# Altium footprint library ECU_pcb_lib.PcbLib: 36 footprints (part 2 of 3)
Each footprint in its own frame and in the unit in brackets; x right, y up, seen from the top. Pads: shape width x height; smd on the part's side, far side on the other; paste and mask are expansions set on the pad; w line width, h text height; cw(c..) or ccw(c..) is an arc to the next point about the centre after c.
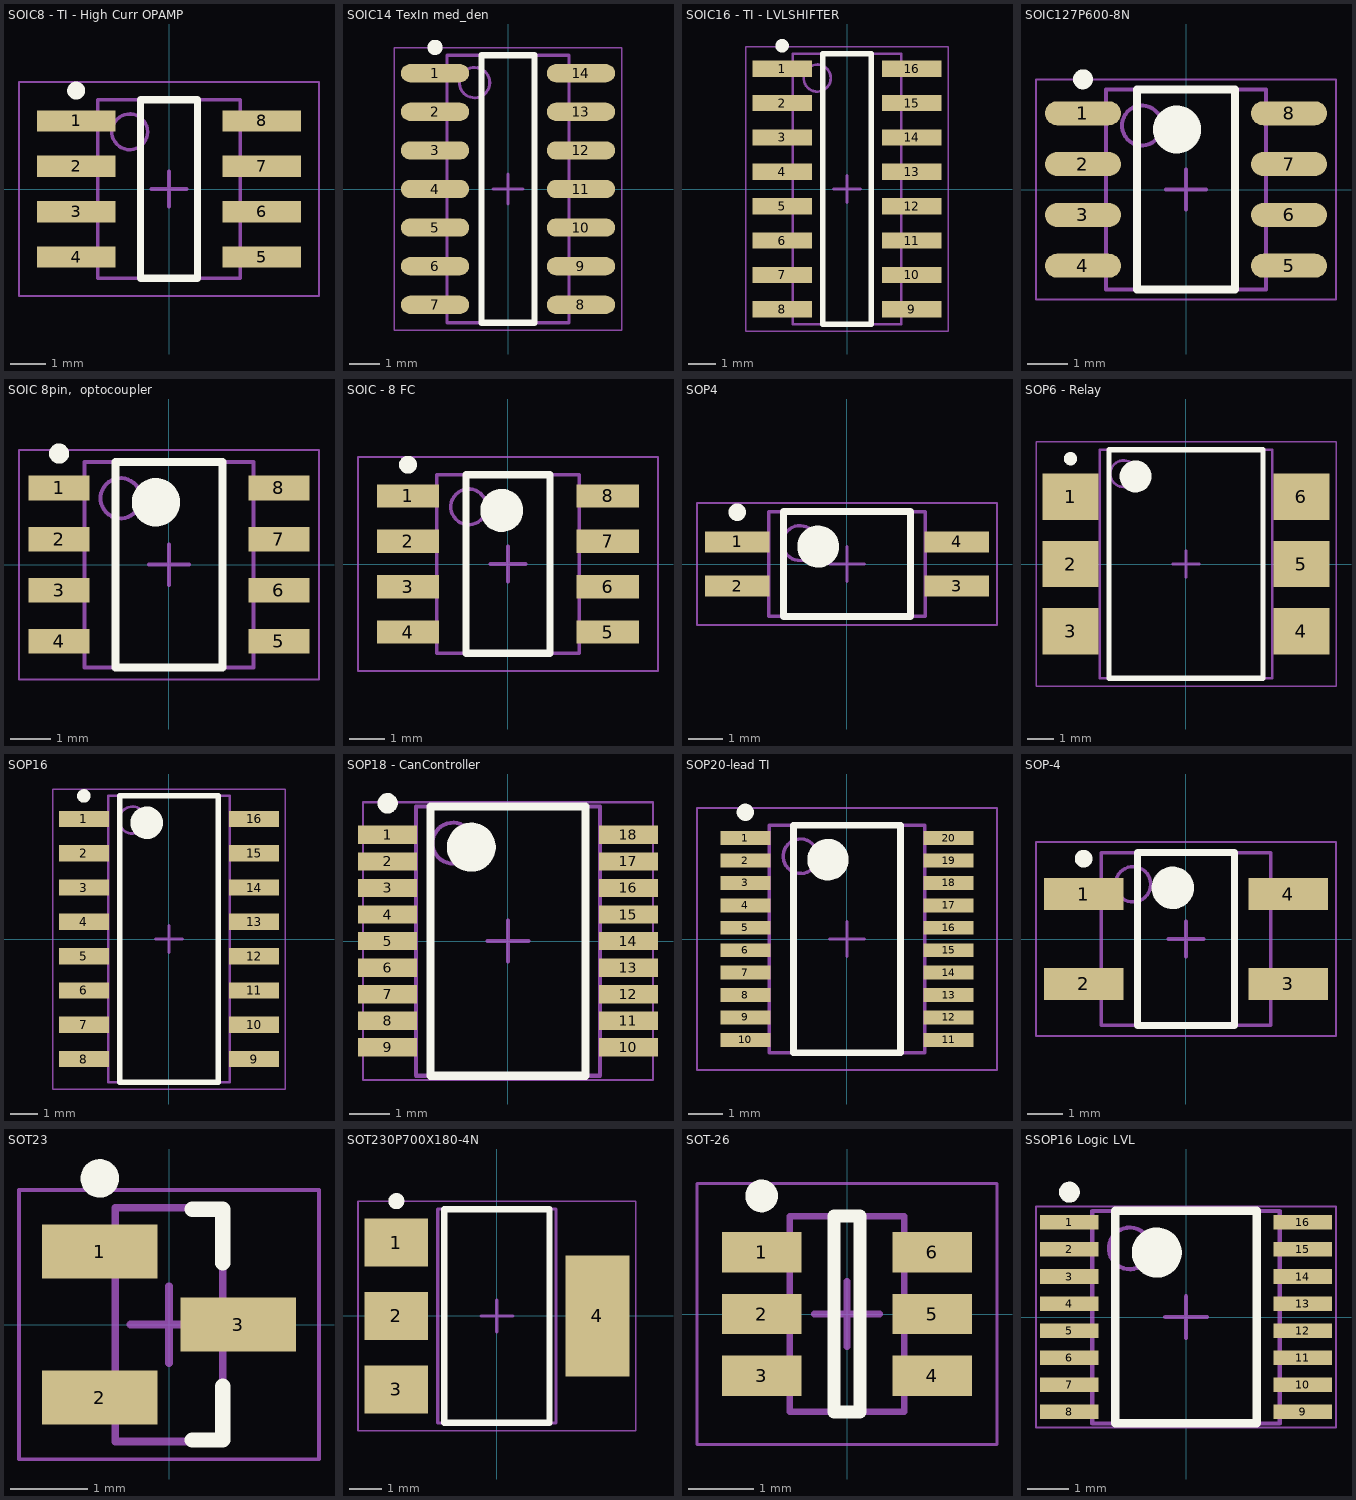
[diagram p1: the footprints below, top view; thin cyan lines are the x and y axes]

## SOIC8 - TI - High Curr OPAMP [mm] "High current Op-amp land pattern (SOIC8) for TI LM7332MA"
height 1.85
pads (8):
  rect 2.2x0.6 smd: 1(-2.6,1.905) 2(-2.6,0.635) 3(-2.6,-0.635) 4(-2.6,-1.905) 5(2.6,-1.905) 6(2.6,-0.635) 7(2.6,0.635) 8(2.6,1.905)
Top Overlay:
  circle w0.25: c-2.6,2.755 r0.125
  lines w0.2: -0.8,-2.5 0.8,-2.5 0.8,2.5 -0.8,2.5 -0.8,-2.5
Mechanical 13:
  circle w0.1: c-1.1,1.6 r0.5
  lines w0.1: -2,-2.5 2,-2.5 2,2.5 -2,2.5 -2,-2.5
Mechanical 15:
  lines w0.05: -4.2,-3 4.2,-3 4.2,3 -4.2,3 -4.2,-3
  lines w0.1: -0.5,0 0.5,0 ; 0,-0.5 0,0.5
3D body: height 1.85, standoff 0.1, extent -2,-2.5 2,2.5

## SOIC14 TexIn med_den [mm] "SOIC14 package, intended for quad opamp from Texasinstruments"
height 1.75
pads (14):
  oval 2.25x0.6 smd: 1(-2.4,3.81) 2(-2.4,2.54) 3(-2.4,1.27) 4(-2.4,0) 5(-2.4,-1.27) 6(-2.4,-2.54) 7(-2.4,-3.81) 8(2.4,-3.81) 9(2.4,-2.54) 10(2.4,-1.27) 11(2.4,0) 12(2.4,1.27) 13(2.4,2.54) 14(2.4,3.81)
Top Overlay:
  circle w0.25: c-2.4,4.66 r0.125
  lines w0.2: -0.875,-4.4 -0.875,4.4 0.875,4.4 0.875,-4.4 -0.875,-4.4
Mechanical 13:
  circle w0.1: c-1.1,3.5 r0.5
  lines w0.1: -2,-4.4 -2,4.4 2,4.4 2,-4.4 -2,-4.4
Mechanical 15:
  lines w0.05: -3.75,-4.65 -3.75,4.65 3.75,4.65 3.75,-4.65 -3.75,-4.65
  lines w0.1: -0.5,0 0.5,0 ; 0,-0.5 0,0.5
3D body: height 1.75, standoff 0.1, extent -2,-4.4 2,4.4

## SOIC16 - TI - LVLSHIFTER [mm] "16 pin SOIC package for Texas Instrument 6 channel level converter"
height 1.75
pads (16):
  rect 2.2x0.6 smd: 1(-2.4,4.445) 2(-2.4,3.175) 3(-2.4,1.905) 4(-2.4,0.635) 5(-2.4,-0.635) 6(-2.4,-1.905) 7(-2.4,-3.175) 8(-2.4,-4.445) 9(2.4,-4.445) 10(2.4,-3.175) 11(2.4,-1.905) 12(2.4,-0.635) 13(2.4,0.635) 14(2.4,1.905) 15(2.4,3.175) 16(2.4,4.445)
Top Overlay:
  circle w0.25: c-2.4,5.295 r0.125
  lines w0.2: -0.9,-5 0.9,-5 0.9,5 -0.9,5 -0.9,-5
Mechanical 13:
  circle w0.1: c-1.1,4.1 r0.5
  lines w0.1: -2,-5 2,-5 2,5 -2,5 -2,-5
Mechanical 15:
  lines w0.05: -3.75,-5.25 3.75,-5.25 3.75,5.25 -3.75,5.25 -3.75,-5.25
  lines w0.1: -0.5,0 0.5,0 ; 0,-0.5 0,0.5
3D body: height 1.75, standoff 0.1, extent -2,-5 2,5

## SOIC127P600-8N [mm]
height 1.35
pads (8):
  oval 1.9x0.6 smd: 1(-2.575,1.905) 2(-2.575,0.635) 3(-2.575,-0.635) 4(-2.575,-1.905) 5(2.575,-1.905) 6(2.575,-0.635) 7(2.575,0.635) 8(2.575,1.905)
Top Overlay:
  circle w0.6: c-0.225,1.5 r0.3
  circle w0.25: c-2.575,2.755 r0.125
  lines w0.2: -1.225,-2.5 1.225,-2.5 1.225,2.5 -1.225,2.5 -1.225,-2.5
Mechanical 13:
  circle w0.1: c-1.1,1.6 r0.5
  lines w0.1: -2,-2.5 2,-2.5 2,2.5 -2,2.5 -2,-2.5
Mechanical 15:
  lines w0.05: -3.75,-2.75 3.75,-2.75 3.75,2.75 -3.75,2.75 -3.75,-2.75
  lines w0.1: -0.5,0 0.5,0 ; 0,-0.5 0,0.5
3D body: height 1.35, standoff 0.1, extent -2,-2.5 2,2.5

## SOIC 8pin,  optocoupler [mm] "8pin SOIC 8pin logic out Fairchild Semi"
height 3.63
pads (8):
  rect 1.52x0.61 smd: 1(-2.73,1.905) 2(-2.73,0.635) 3(-2.73,-0.635) 4(-2.73,-1.905) 5(2.73,-1.905) 6(2.73,-0.635) 7(2.73,0.635) 8(2.73,1.905)
Top Overlay:
  circle w0.6: c-0.325,1.55 r0.3
  circle w0.25: c-2.73,2.76 r0.125
  lines w0.2: -1.325,-2.55 1.325,-2.55 1.325,2.55 -1.325,2.55 -1.325,-2.55
Mechanical 13:
  circle w0.1: c-1.2,1.65 r0.5
  lines w0.1: -2.1,-2.55 2.1,-2.55 2.1,2.55 -2.1,2.55 -2.1,-2.55
Mechanical 15:
  lines w0.05: -3.725,-2.85 3.725,-2.85 3.725,2.85 -3.725,2.85 -3.725,-2.85
  lines w0.1: -0.5,0 0.5,0 ; 0,-0.5 0,0.5
3D body: height 3.63, standoff 0.08, extent -2.1,-2.55 2.1,2.55

## SOIC - 8 FC [mm] "SOIC8 Fairchild Semiconductors"
height 1.75
pads (8):
  rect 1.75x0.65 smd: 1(-2.8,1.905) 2(-2.8,0.635) 3(-2.8,-0.635) 4(-2.8,-1.905) 5(2.8,-1.905) 6(2.8,-0.635) 7(2.8,0.635) 8(2.8,1.905)
Top Overlay:
  circle w0.6: c-0.175,1.5 r0.3
  circle w0.25: c-2.8,2.78 r0.125
  lines w0.2: -1.175,-2.5 1.175,-2.5 1.175,2.5 -1.175,2.5 -1.175,-2.5
Mechanical 13:
  circle w0.1: c-1.1,1.6 r0.5
  lines w0.1: -2,-2.5 2,-2.5 2,2.5 -2,2.5 -2,-2.5
Mechanical 15:
  lines w0.05: -4.2,-3 4.2,-3 4.2,3 -4.2,3 -4.2,-3
  lines w0.1: -0.5,0 0.5,0 ; 0,-0.5 0,0.5
3D body: height 1.75, standoff 0.1, extent -2,-2.5 2,2.5

## SOP4 [mm] "Used for 1channel optocoupler from CEL"
height 2.1
pads (4):
  rect 1.85x0.6 smd: 1(-3.15,0.635) 2(-3.15,-0.635) 3(3.15,-0.635) 4(3.15,0.635)
Top Overlay:
  circle w0.25: c-3.15,1.485 r0.125
  circle w0.6: c-0.825,0.5 r0.3
  lines w0.2: -1.825,-1.5 -1.825,1.5 1.825,1.5 1.825,-1.5 -1.825,-1.5
Mechanical 13:
  circle w0.1: c-1.35,0.6 r0.5
  lines w0.1: -2.25,-1.5 -2.25,1.5 2.25,1.5 2.25,-1.5 -2.25,-1.5
Mechanical 15:
  lines w0.05: -4.3,-1.75 -4.3,1.75 4.3,1.75 4.3,-1.75 -4.3,-1.75
  lines w0.1: -0.5,0 0.5,0 ; 0,-0.5 0,0.5
3D body: height 2.1, standoff 0, extent -2.25,-1.5 2.25,1.5

## SOP6 - Relay [mm] "Footprint for International Rectifier relay"
height 3.42
pads (6):
  rect 2.1x1.75 smd: 1(-4.35,2.54) 2(-4.35,0) 3(-4.35,-2.54) 4(4.35,-2.54) 5(4.35,0) 6(4.35,2.54)
Top Overlay:
  circle w0.6: c-1.9,3.3 r0.3
  circle w0.25: c-4.35,3.965 r0.125
  lines w0.2: -2.9,-4.3 2.9,-4.3 2.9,4.3 -2.9,4.3 -2.9,-4.3
Mechanical 13:
  circle w0.1: c-2.35,3.4 r0.5
  lines w0.1: -3.25,-4.3 3.25,-4.3 3.25,4.3 -3.25,4.3 -3.25,-4.3
Mechanical 15:
  lines w0.05: -5.65,-4.6 5.65,-4.6 5.65,4.6 -5.65,4.6 -5.65,-4.6
  lines w0.1: -0.5,0 0.5,0 ; 0,-0.5 0,0.5
3D body: height 3.42, standoff 0.1, extent -3.25,-4.3 3.25,4.3

## SOP16 [mm] "SOP16 CEL-package (used for 4channel optocoupler)"
height 2.1
pads (16):
  rect 1.85x0.6 smd: 1(-3.15,4.445) 2(-3.15,3.175) 3(-3.15,1.905) 4(-3.15,0.635) 5(-3.15,-0.635) 6(-3.15,-1.905) 7(-3.15,-3.175) 8(-3.15,-4.445) 9(3.15,-4.445) 10(3.15,-3.175) 11(3.15,-1.905) 12(3.15,-0.635) 13(3.15,0.635) 14(3.15,1.905) 15(3.15,3.175) 16(3.15,4.445)
Top Overlay:
  circle w0.25: c-3.15,5.295 r0.125
  circle w0.6: c-0.825,4.3 r0.3
  lines w0.2: -1.825,-5.3 -1.825,5.3 1.825,5.3 1.825,-5.3 -1.825,-5.3
Mechanical 13:
  circle w0.1: c-1.35,4.4 r0.5
  lines w0.1: -2.25,-5.3 -2.25,5.3 2.25,5.3 2.25,-5.3 -2.25,-5.3
Mechanical 15:
  lines w0.05: -4.3,-5.55 -4.3,5.55 4.3,5.55 4.3,-5.55 -4.3,-5.55
  lines w0.1: -0.5,0 0.5,0 ; 0,-0.5 0,0.5
3D body: height 2.1, standoff 0, extent -2.25,-5.3 2.25,5.3

## SOP18 - CanController [mm] "Sop18 package for ssop18 CAN controller from MicroChip"
height 1.2
pads (18):
  rect 1.45x0.45 smd: 1(-2.95,2.6) 2(-2.95,1.95) 3(-2.95,1.3) 4(-2.95,0.65) 5(-2.95,0) 6(-2.95,-0.65) 7(-2.95,-1.3) 8(-2.95,-1.95) 9(-2.95,-2.6) 10(2.95,-2.6) 11(2.95,-1.95) 12(2.95,-1.3) 13(2.95,-0.65) 14(2.95,0) 15(2.95,0.65) 16(2.95,1.3) 17(2.95,1.95) 18(2.95,2.6)
Top Overlay:
  circle w0.25: c-2.95,3.375 r0.125
  circle w0.6: c-0.9,2.3 r0.3
  lines w0.2: -1.9,-3.3 -1.9,3.3 1.9,3.3 1.9,-3.3 -1.9,-3.3
Mechanical 13:
  circle w0.1: c-1.35,2.4 r0.5
  lines w0.1: -2.25,-3.3 -2.25,3.3 2.25,3.3 2.25,-3.3 -2.25,-3.3
Mechanical 15:
  lines w0.05: -3.55,-3.4 -3.55,3.4 3.55,3.4 3.55,-3.4 -3.55,-3.4
  lines w0.1: -0.5,0 0.5,0 ; 0,-0.5 0,0.5
3D body: height 1.2, standoff 0.05, extent -2.25,-3.3 2.25,3.3

## SOP20-lead TI [mm] "20 lead SSOP package for MCP2515 can-controller"
height 1.2
pads (20):
  rect 1.45x0.4 smd: 1(-2.95,2.925) 2(-2.95,2.275) 3(-2.95,1.625) 4(-2.95,0.975) 5(-2.95,0.325) 6(-2.95,-0.325) 7(-2.95,-0.975) 8(-2.95,-1.625) 9(-2.95,-2.275) 10(-2.95,-2.925) 11(2.95,-2.925) 12(2.95,-2.275) 13(2.95,-1.625) 14(2.95,-0.975) 15(2.95,-0.325) 16(2.95,0.325) 17(2.95,0.975) 18(2.95,1.625) 19(2.95,2.275) 20(2.95,2.925)
Top Overlay:
  circle w0.25: c-2.95,3.675 r0.125
  circle w0.6: c-0.55,2.3 r0.3
  lines w0.2: -1.55,-3.3 -1.55,3.3 1.55,3.3 1.55,-3.3 -1.55,-3.3
Mechanical 13:
  circle w0.1: c-1.35,2.4 r0.5
  lines w0.1: -2.25,-3.3 -2.25,3.3 2.25,3.3 2.25,-3.3 -2.25,-3.3
Mechanical 15:
  lines w0.05: -4.35,-3.8 -4.35,3.8 4.35,3.8 4.35,-3.8 -4.35,-3.8
  lines w0.1: -0.5,0 0.5,0 ; 0,-0.5 0,0.5
3D body: height 1.2, standoff 0.05, extent -2.25,-3.3 2.25,3.3

## SOP-4 [mm] "SOP, 4-Leads, Body 4,93x4,57mm, Pitch 2,54mm, IPC Medium Density"
height 2.65
pads (4):
  rect 2.25x0.91 smd: 1(-2.9,1.27) 2(-2.9,-1.27) 3(2.9,-1.27) 4(2.9,1.27)
Top Overlay:
  circle w0.6: c-0.375,1.45 r0.3
  circle w0.25: c-2.9,2.275 r0.125
  lines w0.2: -1.375,-2.45 1.375,-2.45 1.375,2.45 -1.375,2.45 -1.375,-2.45
Mechanical 13:
  circle w0.1: c-1.5,1.55 r0.5
  lines w0.1: -2.4,-2.45 2.4,-2.45 2.4,2.45 -2.4,2.45 -2.4,-2.45
Mechanical 15:
  lines w0.05: -4.25,-2.75 4.25,-2.75 4.25,2.75 -4.25,2.75 -4.25,-2.75
  lines w0.1: -0.5,0 0.5,0 ; 0,-0.5 0,0.5
3D body: height 2.65, standoff 0.1, extent -2.4,-2.45 2.4,2.45

## SOT23 [mm] "SOT23, 3-Leads, Body 2,92x2,37mm, Pitch 0,95mm, IPC Medium Density"
height 1.1
pads (3):
  rect 1.5x0.7 smd: 1(-0.9,0.95) 2(-0.9,-0.95) 3(0.9,0)
Top Overlay:
  circle w0.25: c-0.9,1.9 r0.125
  lines w0.2: 0.3,-1.5 0.7,-1.5 0.7,-0.8 ; 0.3,1.5 0.7,1.5 0.7,0.8
Mechanical 13:
  lines w0.1: -0.7,-1.52 0.7,-1.52 0.7,1.52 -0.7,1.52 -0.7,-1.52
Mechanical 15:
  lines w0.05: -1.95,-1.75 1.95,-1.75 1.95,1.75 -1.95,1.75 -1.95,-1.75
  lines w0.1: -0.5,0 0.5,0 ; 0,-0.5 0,0.5
3D body: height 1.1, standoff 0.05, extent -0.7,-1.52 0.7,1.52

## SOT230P700X180-4N [mm] "SOT223, 4-Leads, Body 6,50x7,00mm (avg), Pitch 2,30mm, IPC Medium Density"
height 1.8
pads (4):
  rect 2x1.5 smd: 1(-3.15,2.3) 2(-3.15,0) 3(-3.15,-2.3)
  rect 2x3.8 smd: 4(3.15,0)
Top Overlay:
  circle w0.25: c-3.15,3.6 r0.125
  lines w0.2: -1.65,-3.35 -1.65,3.35 1.65,3.35 1.65,-3.35 -1.65,-3.35
Mechanical 13:
  lines w0.1: -1.85,-3.35 -1.85,3.35 1.85,3.35 1.85,-3.35 -1.85,-3.35
Mechanical 15:
  lines w0.05: -4.35,-3.6 -4.35,3.6 4.35,3.6 4.35,-3.6 -4.35,-3.6
  lines w0.1: -0.5,0 0.5,0 ; 0,-0.5 0,0.5
3D body: height 1.8, standoff 0.02, extent -1.85,-3.35 1.85,3.35

## SOT-26 [mm] "SOT-23 (6) package"
height 1
pads (6):
  rect 1.22x0.62 smd: 1(-1.31,0.95) 2(-1.31,0) 3(-1.31,-0.95) 4(1.31,-0.95) 5(1.31,0) 6(1.31,0.95)
Top Overlay:
  circle w0.25: c-1.31,1.81 r0.125
  lines w0.2: -0.2,-1.5 -0.2,1.5 0.2,1.5 0.2,-1.5 -0.2,-1.5
Mechanical 13:
  lines w0.1: -0.875,-1.5 0.875,-1.5 0.875,1.5 -0.875,1.5 -0.875,-1.5
Mechanical 15:
  lines w0.05: -2.3,-2 2.3,-2 2.3,2 -2.3,2 -2.3,-2
  lines w0.1: -0.5,0 0.5,0 ; 0,-0.5 0,0.5
3D body: height 1, standoff 0.01, extent -0.875,-1.5 0.875,1.5

## SSOP16 Logic LVL [mm] "SSOP-16 package for 6 channel level converter"
height 1.2
pads (16):
  rect 1.4x0.35 smd: 1(-2.8,2.275) 2(-2.8,1.625) 3(-2.8,0.975) 4(-2.8,0.325) 5(-2.8,-0.325) 6(-2.8,-0.975) 7(-2.8,-1.625) 8(-2.8,-2.275) 9(2.8,-2.275) 10(2.8,-1.625) 11(2.8,-0.975) 12(2.8,-0.325) 13(2.8,0.325) 14(2.8,0.975) 15(2.8,1.625) 16(2.8,2.275)
Top Overlay:
  circle w0.25: c-2.8,3 r0.125
  circle w0.6: c-0.7,1.55 r0.3
  lines w0.2: -1.7,-2.55 -1.7,2.55 1.7,2.55 1.7,-2.55 -1.7,-2.55
Mechanical 13:
  circle w0.1: c-1.35,1.65 r0.5
  lines w0.1: -2.25,-2.55 -2.25,2.55 2.25,2.55 2.25,-2.55 -2.25,-2.55
Mechanical 15:
  lines w0.05: -3.6,-2.65 -3.6,2.65 3.6,2.65 3.6,-2.65 -3.6,-2.65
  lines w0.1: -0.5,0 0.5,0 ; 0,-0.5 0,0.5
3D body: height 1.2, standoff 0.05, extent -2.25,-2.55 2.25,2.55